# Altium footprint library microchip.PCBLIB: 54 footprints (part 4 of 4)
Each footprint in its own frame and in the unit in brackets; x right, y up, seen from the top. Pads: shape width x height; smd on the part's side, far side on the other; paste and mask are expansions set on the pad; w line width, h text height; cw(c..) or ccw(c..) is an arc to the next point about the centre after c.
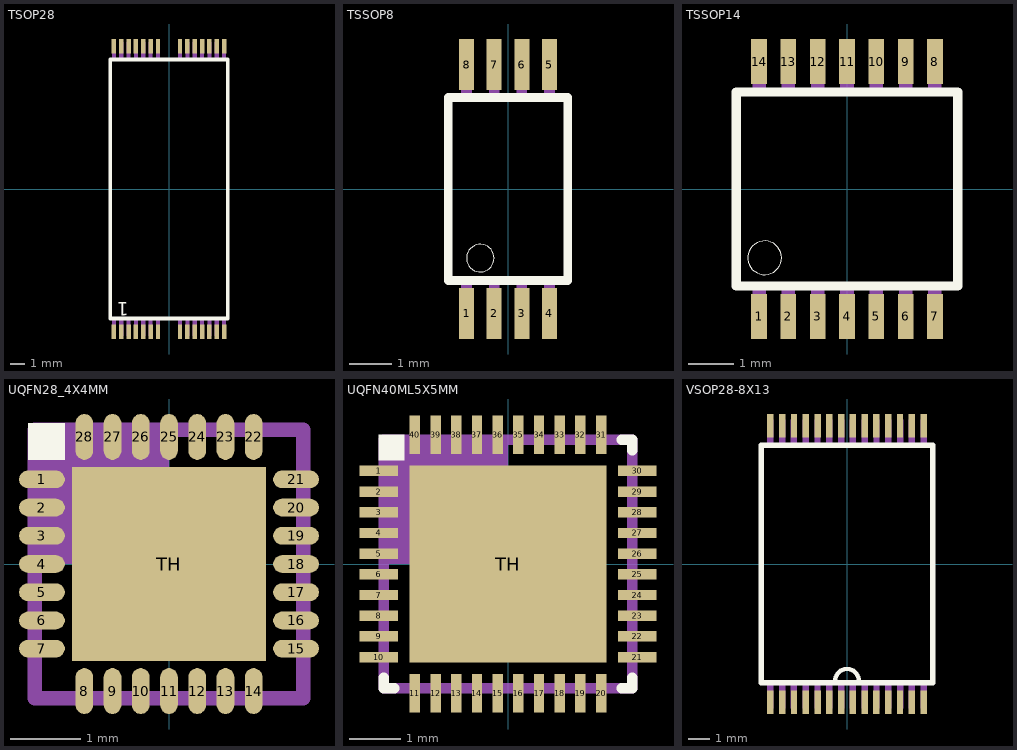
[diagram p3: the footprints below, top view; thin cyan lines are the x and y axes]

## TSOP28 [mm]
pads (28):
  rect 0.3x1 smd: 1(-3.75,-9.7) 2(-3.25,-9.7) 3(-2.75,-9.7) 4(-2.25,-9.7) 5(-1.75,-9.7) 6(-1.25,-9.7) 7(-0.75,-9.7) 8(0.75,-9.7) 9(1.25,-9.7) 10(1.75,-9.7) 11(2.25,-9.7) 12(2.75,-9.7) 13(3.25,-9.7) 14(3.75,-9.7) 15(3.75,9.7) 16(3.25,9.7) 17(2.75,9.7) 18(2.25,9.7) 19(1.75,9.7) 20(1.25,9.7) 21(0.75,9.7) 22(-0.75,9.7) 23(-1.25,9.7) 24(-1.75,9.7) 25(-2.25,9.7) 26(-2.75,9.7) 27(-3.25,9.7) 28(-3.75,9.7)
Top Overlay:
  lines w0.254: -4,-8.8 -4,8.8 4,8.8 4,-8.8 -4,-8.8
  text "1" at -2.75,-7.4 h1.57
Mechanical 16:
  rectangle: -3.89,-10 -3.61,-8.88
  rectangle: -3.39,-10 -3.11,-8.88
  rectangle: -2.89,-10 -2.61,-8.88
  rectangle: -2.39,-10 -2.11,-8.88
  rectangle: -1.89,-10 -1.61,-8.88
  rectangle: -1.39,-10 -1.11,-8.88
  rectangle: -0.89,-10 -0.61,-8.88
  rectangle: 0.61,-10 0.89,-8.88
  rectangle: 1.11,-10 1.39,-8.88
  rectangle: 1.61,-10 1.89,-8.88
  rectangle: 2.11,-10 2.39,-8.88
  rectangle: 2.61,-10 2.89,-8.88
  rectangle: 3.11,-10 3.39,-8.88
  rectangle: 3.61,-10 3.89,-8.88
  rectangle: 3.61,8.88 3.89,10
  rectangle: 3.11,8.88 3.39,10
  rectangle: 2.61,8.88 2.89,10
  rectangle: 2.11,8.88 2.39,10
  rectangle: 1.61,8.88 1.89,10
  rectangle: 1.11,8.88 1.39,10
  rectangle: 0.61,8.88 0.89,10
  rectangle: -0.89,8.88 -0.61,10
  rectangle: -1.39,8.88 -1.11,10
  rectangle: -1.89,8.88 -1.61,10
  rectangle: -2.39,8.88 -2.11,10
  rectangle: -2.89,8.88 -2.61,10
  rectangle: -3.39,8.88 -3.11,10
  rectangle: -3.89,8.88 -3.61,10

## TSSOP8 [mm]
pads (8):
  rect 0.35x1.2 smd: 1(-0.975,-2.925) 2(-0.325,-2.925) 3(0.325,-2.925) 4(0.975,-2.925) 5(0.975,2.925) 6(0.325,2.925) 7(-0.325,2.925) 8(-0.975,2.925)
Top Overlay:
  circle w0: c-0.65,-1.625 r0.325
  lines w0.203: -1.4,-2.15 -1.4,2.15 1.4,2.15 1.4,-2.15 -1.4,-2.15
Mechanical 16:
  rectangle: -1.1,-3.2 -0.85,-2.2
  rectangle: -0.45,-3.2 -0.2,-2.2
  rectangle: 0.2,-3.2 0.45,-2.2
  rectangle: 0.85,-3.2 1.1,-2.2
  rectangle: 0.85,2.2 1.1,3.2
  rectangle: 0.2,2.2 0.45,3.2
  rectangle: -0.45,2.2 -0.2,3.2
  rectangle: -1.1,2.2 -0.85,3.2

## TSSOP14 [mm]
pads (14):
  rect 0.35x1 smd: 1(-1.95,-2.825) 2(-1.3,-2.825) 3(-0.65,-2.825) 4(0,-2.825) 5(0.65,-2.825) 6(1.3,-2.825) 7(1.95,-2.825) 8(1.95,2.825) 9(1.3,2.825) 10(0.65,2.825) 11(0,2.825) 12(-0.65,2.825) 13(-1.3,2.825) 14(-1.95,2.825)
Top Overlay:
  circle w0: c-1.825,-1.525 r0.375
  lines w0.203: -2.455,-2.15 2.455,-2.15 2.455,2.15 -2.455,2.15 -2.455,-2.15
Mechanical 16:
  rectangle: -2.1,-3.2 -1.8,-2.225
  rectangle: -1.45,-3.2 -1.15,-2.225
  rectangle: -0.8,-3.2 -0.5,-2.225
  rectangle: -0.15,-3.2 0.15,-2.225
  rectangle: 0.5,-3.2 0.8,-2.225
  rectangle: 1.15,-3.2 1.45,-2.225
  rectangle: 1.8,-3.2 2.1,-2.225
  region: 2.1,3.2 1.8,3.2 1.8,2.225 2.1,2.225
  region: 1.45,3.2 1.15,3.2 1.15,2.225 1.45,2.225
  region: 0.8,3.2 0.5,3.2 0.5,2.225 0.8,2.225
  region: 0.15,3.2 -0.15,3.2 -0.15,2.225 0.15,2.225
  region: -0.5,3.2 -0.8,3.2 -0.8,2.225 -0.5,2.225
  region: -1.15,3.2 -1.45,3.2 -1.45,2.225 -1.15,2.225
  region: -1.8,3.2 -2.1,3.2 -2.1,2.225 -1.8,2.225

## UQFN28_4X4MM [mm]
pads (29):
  rrect100% 0.65x0.25 smd: 1(-1.8,1.2) 2(-1.8,0.8) 3(-1.8,0.4) 4(-1.8,0) 5(-1.8,-0.4) 6(-1.8,-0.8) 7(-1.8,-1.2) 15(1.8,-1.2) 16(1.8,-0.8) 17(1.8,-0.4) 18(1.8,0) 19(1.8,0.4) 20(1.8,0.8) 21(1.8,1.2)
  rrect100% 0.25x0.65 smd: 8(-1.2,-1.8) 9(-0.8,-1.8) 10(-0.4,-1.8) 11(0,-1.8) 12(0.4,-1.8) 13(0.8,-1.8) 14(1.2,-1.8) 22(1.2,1.8) 23(0.8,1.8) 24(0.4,1.8) 25(0,1.8) 26(-0.4,1.8) 27(-0.8,1.8) 28(-1.2,1.8)
  rect 2.75x2.75 smd: TH(0,0)
Top Overlay:
  rectangle: -2,1.475 -1.475,2
Top Paste:
  rectangle: -1.2,-1.2 1.2,1.2
  lines w0.2: -2,-1.2 -1.6,-1.2 ; -2,-0.8 -1.6,-0.8 ; -2,-0.4 -1.6,-0.4 ; -2,0 -1.6,0 ; -2,0.4 -1.6,0.4 ; -2,0.8 -1.6,0.8 ; -2,1.2 -1.6,1.2 ; -1.2,-2 -1.2,-1.6 ; -1.2,1.6 -1.2,2 ; -0.8,-2 -0.8,-1.6 ; -0.8,1.6 -0.8,2 ; -0.4,-2 -0.4,-1.6 ; -0.4,1.6 -0.4,2 ; 0,-2 0,-1.6 ; 0,1.6 0,2 ; 0.4,-2 0.4,-1.6 ; 0.4,1.6 0.4,2 ; 0.8,-2 0.8,-1.6 ; 0.8,1.6 0.8,2 ; 1.2,-2 1.2,-1.6 ; 1.2,1.6 1.2,2 ; 1.6,-1.2 2,-1.2 ; 1.6,-0.8 2,-0.8 ; 1.6,-0.4 2,-0.4 ; 1.6,0 2,0 ; 1.6,0.4 2,0.4 ; 1.6,0.8 2,0.8 ; 1.6,1.2 2,1.2
Top Solder:
  rectangle: -1.4,-1.4 1.4,1.4
  lines w0.3: -2,-1.2 -1.6,-1.2 ; -2,-0.8 -1.6,-0.8 ; -2,-0.4 -1.6,-0.4 ; -2,0 -1.6,0 ; -2,0.4 -1.6,0.4 ; -2,0.8 -1.6,0.8 ; -2,1.2 -1.6,1.2 ; -1.2,-2 -1.2,-1.6 ; -1.2,1.6 -1.2,2 ; -0.8,-2 -0.8,-1.6 ; -0.8,1.6 -0.8,2 ; -0.4,-2 -0.4,-1.6 ; -0.4,1.6 -0.4,2 ; 0,-2 0,-1.6 ; 0,1.6 0,2 ; 0.4,-2 0.4,-1.6 ; 0.4,1.6 0.4,2 ; 0.8,-2 0.8,-1.6 ; 0.8,1.6 0.8,2 ; 1.2,-2 1.2,-1.6 ; 1.2,1.6 1.2,2 ; 1.6,-1.2 2,-1.2 ; 1.6,-0.8 2,-0.8 ; 1.6,-0.4 2,-0.4 ; 1.6,0 2,0 ; 1.6,0.4 2,0.4 ; 1.6,0.8 2,0.8 ; 1.6,1.2 2,1.2
Mechanical 16:
  rectangle: -2,0 0,2
  lines w0.203: -1.9,-1.9 1.9,-1.9 1.9,1.9 -1.9,1.9 -1.9,-1.9

## UQFN40ML5X5MM [mm]
pads (41):
  rect 0.75x0.2 smd: 1(-2.5,1.8) 2(-2.5,1.4) 3(-2.5,1) 4(-2.5,0.6) 5(-2.5,0.2) 6(-2.5,-0.2) 7(-2.5,-0.6) 8(-2.5,-1) 9(-2.5,-1.4) 10(-2.5,-1.8) 21(2.5,-1.8) 22(2.5,-1.4) 23(2.5,-1) 24(2.5,-0.6) 25(2.5,-0.2) 26(2.5,0.2) 27(2.5,0.6) 28(2.5,1) 29(2.5,1.4) 30(2.5,1.8)
  rect 0.2x0.75 smd: 11(-1.8,-2.5) 12(-1.4,-2.5) 13(-1,-2.5) 14(-0.6,-2.5) 15(-0.2,-2.5) 16(0.2,-2.5) 17(0.6,-2.5) 18(1,-2.5) 19(1.4,-2.5) 20(1.8,-2.5) 31(1.8,2.5) 32(1.4,2.5) 33(1,2.5) 34(0.6,2.5) 35(0.2,2.5) 36(-0.2,2.5) 37(-0.6,2.5) 38(-1,2.5) 39(-1.4,2.5) 40(-1.8,2.5)
  rect 3.8x3.8 smd: TH(0,0)
Top Overlay:
  rectangle: -2.5,2 -2,2.5
  lines w0.203: -2.4,-2.2 -2.4,-2.4 -2.2,-2.4 ; 2.2,-2.4 2.4,-2.4 2.4,-2.2 ; 2.2,2.4 2.4,2.4 2.4,2.2
Top Paste:
  rectangle: -2.85,1.725 -2.15,1.875
  rectangle: -2.85,1.325 -2.15,1.475
  rectangle: -2.85,0.925 -2.15,1.075
  rectangle: -2.85,0.525 -2.15,0.675
  rectangle: -2.85,0.125 -2.15,0.275
  rectangle: -2.85,-0.275 -2.15,-0.125
  rectangle: -2.85,-0.675 -2.15,-0.525
  rectangle: -2.85,-1.075 -2.15,-0.925
  rectangle: -2.85,-1.475 -2.15,-1.325
  rectangle: -2.85,-1.875 -2.15,-1.725
  region: -1.725,-2.85 -1.725,-2.15 -1.875,-2.15 -1.875,-2.85
  region: -1.325,-2.85 -1.325,-2.15 -1.475,-2.15 -1.475,-2.85
  region: -0.925,-2.85 -0.925,-2.15 -1.075,-2.15 -1.075,-2.85
  region: -0.525,-2.85 -0.525,-2.15 -0.675,-2.15 -0.675,-2.85
  region: -0.125,-2.85 -0.125,-2.15 -0.275,-2.15 -0.275,-2.85
  region: 0.275,-2.85 0.275,-2.15 0.125,-2.15 0.125,-2.85
  region: 0.675,-2.85 0.675,-2.15 0.525,-2.15 0.525,-2.85
  region: 1.075,-2.85 1.075,-2.15 0.925,-2.15 0.925,-2.85
  region: 1.475,-2.85 1.475,-2.15 1.325,-2.15 1.325,-2.85
  region: 1.875,-2.85 1.875,-2.15 1.725,-2.15 1.725,-2.85
  region: 2.85,-1.725 2.15,-1.725 2.15,-1.875 2.85,-1.875
  region: 2.85,-1.325 2.15,-1.325 2.15,-1.475 2.85,-1.475
  region: 2.85,-0.925 2.15,-0.925 2.15,-1.075 2.85,-1.075
  region: 2.85,-0.525 2.15,-0.525 2.15,-0.675 2.85,-0.675
  region: 2.85,-0.125 2.15,-0.125 2.15,-0.275 2.85,-0.275
  region: 2.85,0.275 2.15,0.275 2.15,0.125 2.85,0.125
  region: 2.85,0.675 2.15,0.675 2.15,0.525 2.85,0.525
  region: 2.85,1.075 2.15,1.075 2.15,0.925 2.85,0.925
  region: 2.85,1.475 2.15,1.475 2.15,1.325 2.85,1.325
  region: 2.85,1.875 2.15,1.875 2.15,1.725 2.85,1.725
  region: 1.725,2.85 1.725,2.15 1.875,2.15 1.875,2.85
  region: 1.325,2.85 1.325,2.15 1.475,2.15 1.475,2.85
  region: 0.925,2.85 0.925,2.15 1.075,2.15 1.075,2.85
  region: 0.525,2.85 0.525,2.15 0.675,2.15 0.675,2.85
  region: 0.125,2.85 0.125,2.15 0.275,2.15 0.275,2.85
  region: -0.275,2.85 -0.275,2.15 -0.125,2.15 -0.125,2.85
  region: -0.675,2.85 -0.675,2.15 -0.525,2.15 -0.525,2.85
  region: -1.075,2.85 -1.075,2.15 -0.925,2.15 -0.925,2.85
  region: -1.475,2.85 -1.475,2.15 -1.325,2.15 -1.325,2.85
  region: -1.875,2.85 -1.875,2.15 -1.725,2.15 -1.725,2.85
  rectangle: -1.75,-1.75 1.75,1.75
Top Solder:
  rectangle: -2.9,1.675 -2.1,1.925
  rectangle: -2.9,1.275 -2.1,1.525
  rectangle: -2.9,0.875 -2.1,1.125
  rectangle: -2.9,0.475 -2.1,0.725
  rectangle: -2.9,0.075 -2.1,0.325
  rectangle: -2.9,-0.325 -2.1,-0.075
  rectangle: -2.9,-0.725 -2.1,-0.475
  rectangle: -2.9,-1.125 -2.1,-0.875
  rectangle: -2.9,-1.525 -2.1,-1.275
  rectangle: -2.9,-1.925 -2.1,-1.675
  region: -1.675,-2.9 -1.675,-2.1 -1.925,-2.1 -1.925,-2.9
  region: -1.275,-2.9 -1.275,-2.1 -1.525,-2.1 -1.525,-2.9
  region: -0.875,-2.9 -0.875,-2.1 -1.125,-2.1 -1.125,-2.9
  region: -0.475,-2.9 -0.475,-2.1 -0.725,-2.1 -0.725,-2.9
  region: -0.075,-2.9 -0.075,-2.1 -0.325,-2.1 -0.325,-2.9
  region: 0.325,-2.9 0.325,-2.1 0.075,-2.1 0.075,-2.9
  region: 0.725,-2.9 0.725,-2.1 0.475,-2.1 0.475,-2.9
  region: 1.125,-2.9 1.125,-2.1 0.875,-2.1 0.875,-2.9
  region: 1.525,-2.9 1.525,-2.1 1.275,-2.1 1.275,-2.9
  region: 1.925,-2.9 1.925,-2.1 1.675,-2.1 1.675,-2.9
  region: 2.9,-1.675 2.1,-1.675 2.1,-1.925 2.9,-1.925
  region: 2.9,-1.275 2.1,-1.275 2.1,-1.525 2.9,-1.525
  region: 2.9,-0.875 2.1,-0.875 2.1,-1.125 2.9,-1.125
  region: 2.9,-0.475 2.1,-0.475 2.1,-0.725 2.9,-0.725
  region: 2.9,-0.075 2.1,-0.075 2.1,-0.325 2.9,-0.325
  region: 2.9,0.325 2.1,0.325 2.1,0.075 2.9,0.075
  region: 2.9,0.725 2.1,0.725 2.1,0.475 2.9,0.475
  region: 2.9,1.125 2.1,1.125 2.1,0.875 2.9,0.875
  region: 2.9,1.525 2.1,1.525 2.1,1.275 2.9,1.275
  region: 2.9,1.925 2.1,1.925 2.1,1.675 2.9,1.675
  region: 1.675,2.9 1.675,2.1 1.925,2.1 1.925,2.9
  region: 1.275,2.9 1.275,2.1 1.525,2.1 1.525,2.9
  region: 0.875,2.9 0.875,2.1 1.125,2.1 1.125,2.9
  region: 0.475,2.9 0.475,2.1 0.725,2.1 0.725,2.9
  region: 0.075,2.9 0.075,2.1 0.325,2.1 0.325,2.9
  region: -0.325,2.9 -0.325,2.1 -0.075,2.1 -0.075,2.9
  region: -0.725,2.9 -0.725,2.1 -0.475,2.1 -0.475,2.9
  region: -1.125,2.9 -1.125,2.1 -0.875,2.1 -0.875,2.9
  region: -1.525,2.9 -1.525,2.1 -1.275,2.1 -1.275,2.9
  region: -1.925,2.9 -1.925,2.1 -1.675,2.1 -1.675,2.9
  rectangle: -1.95,-1.95 1.95,1.95
Mechanical 16:
  rectangle: -2.4,0 0,2.4
  lines w0.203: -2.4,-2.4 -2.4,2.4 2.4,2.4 2.4,-2.4 -2.4,-2.4

## VSOP28-8X13 [mm]
pads (28):
  rect 0.3x1.1 smd: 1(0.275,-6.45) 2(0.825,-6.45) 3(1.375,-6.45) 4(1.925,-6.45) 5(2.475,-6.45) 6(3.025,-6.45) 7(3.575,-6.45) 8(3.575,6.45) 9(3.025,6.45) 10(2.475,6.45) 11(1.925,6.45) 12(1.375,6.45) 13(0.825,6.45) 14(0.275,6.45) 15(-0.275,6.45) 16(-0.825,6.45) 17(-1.375,6.45) 18(-1.925,6.45) 19(-2.475,6.45) 20(-3.025,6.45) 21(-3.575,6.45) 22(-3.575,-6.45) 23(-3.025,-6.45) 24(-2.475,-6.45) 25(-1.925,-6.45) 26(-1.375,-6.45) 27(-0.825,-6.45) 28(-0.275,-6.45)
Top Overlay:
  lines w0.203: -0.55,-5.45 cw(c0,-5.45) 0.55,-5.45
  lines w0.254: -4,-5.55 -4,5.55 4,5.55 4,-5.55 -4,-5.55
Mechanical 16:
  rectangle: 0.125,-6.75 0.425,-5.55
  rectangle: 0.675,-6.75 0.975,-5.55
  rectangle: 1.225,-6.75 1.525,-5.55
  rectangle: 1.775,-6.75 2.075,-5.55
  rectangle: 2.325,-6.75 2.625,-5.55
  rectangle: 2.875,-6.75 3.175,-5.55
  rectangle: 3.425,-6.75 3.725,-5.55
  rectangle: 3.425,5.55 3.725,6.75
  rectangle: 2.875,5.55 3.175,6.75
  rectangle: 2.325,5.55 2.625,6.75
  rectangle: 1.775,5.55 2.075,6.75
  rectangle: 1.225,5.55 1.525,6.75
  rectangle: 0.675,5.55 0.975,6.75
  rectangle: 0.125,5.55 0.425,6.75
  rectangle: -0.425,5.55 -0.125,6.75
  rectangle: -0.975,5.55 -0.675,6.75
  rectangle: -1.525,5.55 -1.225,6.75
  rectangle: -2.075,5.55 -1.775,6.75
  rectangle: -2.625,5.55 -2.325,6.75
  rectangle: -3.175,5.55 -2.875,6.75
  rectangle: -3.725,5.55 -3.425,6.75
  rectangle: -3.725,-6.75 -3.425,-5.55
  rectangle: -3.175,-6.75 -2.875,-5.55
  rectangle: -2.625,-6.75 -2.325,-5.55
  rectangle: -2.075,-6.75 -1.775,-5.55
  rectangle: -1.525,-6.75 -1.225,-5.55
  rectangle: -0.975,-6.75 -0.675,-5.55
  rectangle: -0.425,-6.75 -0.125,-5.55